# Altium footprint library HMC5883L.PcbLib: 1 footprints
Each footprint in its own frame and in the unit in brackets; x right, y up, seen from the top. Pads: shape width x height; smd on the part's side, far side on the other; paste and mask are expansions set on the pad; w line width, h text height; cw(c..) or ccw(c..) is an arc to the next point about the centre after c.
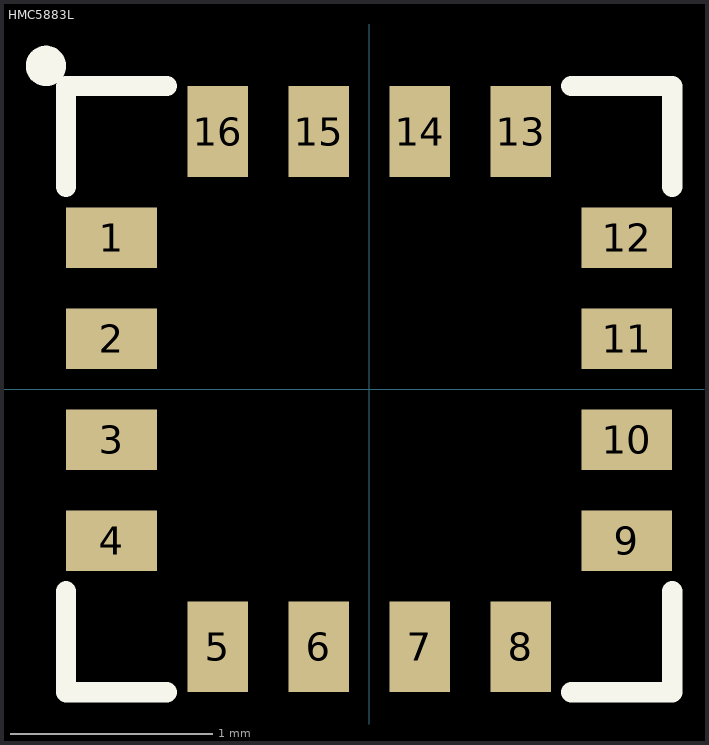
[diagram p0: the footprint, top view; thin cyan lines are the x and y axes]

## HMC5883L [mm]
height 0.9
pads (16):
  rect 0.45x0.3 smd: 1(-1.275,0.75) 2(-1.275,0.25) 3(-1.275,-0.25) 4(-1.275,-0.75) 9(1.275,-0.75) 10(1.275,-0.25) 11(1.275,0.25) 12(1.275,0.75)
  rect 0.3x0.45 smd: 5(-0.75,-1.275) 6(-0.25,-1.275) 7(0.25,-1.275) 8(0.75,-1.275) 13(0.75,1.275) 14(0.25,1.275) 15(-0.25,1.275) 16(-0.75,1.275)
Top Overlay:
  circle w0.1: c-1.6,1.6 r0.05
  lines w0.1: -1.5,-1 -1.5,-1.5 -1,-1.5 ; -1.5,1 -1.5,1.5 -1,1.5 ; 1,-1.5 1.5,-1.5 1.5,-1 ; 1,1.5 1.5,1.5 1.5,1
3D body "HMC5883L.STEP": height 0.91, standoff 0, extent -1.5,-1.5 1.5,1.5